# EAGLE library part HDMI_SMD (library HDMI)
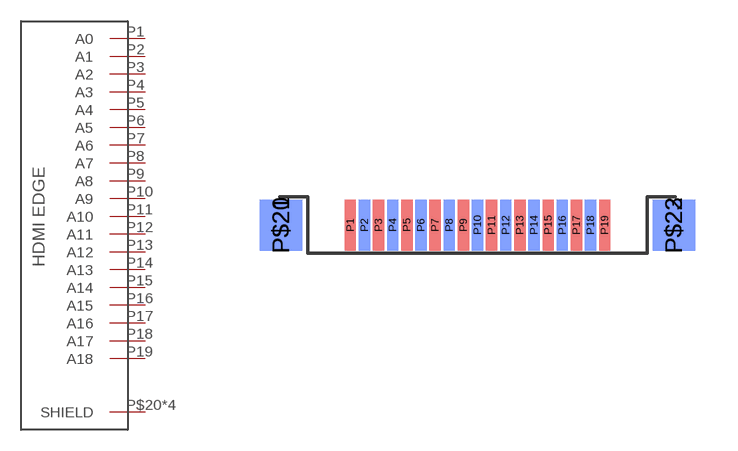
[diagram p0: symbol with the pads of HDMIV2; footprint HDMIV2]

Designator prefix -

## HDMI_SMDV2  [HDMIV2]
P1  A0
P2  A1
P3  A2
P4  A3
P5  A4
P6  A5
P7  A6
P8  A7
P9  A8
P10  A9
P11  A10
P12  A11
P13  A12
P14  A13
P15  A14
P16  A15
P17  A16
P18  A17
P19  A18
P$20  SHIELD
P$21  SHIELD
P$22  SHIELD
P$23  SHIELD

## Footprint HDMIV2 (pad centres in mm)
smd 0.4 x 1.8: P1 -4.5,2; P3 -3.5,2; P5 -2.5,2; P7 -1.5,2; P9 -0.5,2; P11 0.5,2; P13 1.5,2; P15 2.5,2; P17 3.5,2; P19 4.5,2
smd 0.4 x 1.8 bottom: P2 -4,2; P4 -3,2; P6 -2,2; P8 -1,2; P10 0,2; P12 1,2; P14 2,2; P16 3,2; P18 4,2
smd 1.5 x 1.8: P$20 -6.95,2; P$22 6.95,2
smd 1.5 x 1.8 bottom: P$21 -6.95,2; P$23 6.95,2